# EAGLE library part CS8952-CQZ (library Cirrus_Logic_By_element14_Batch_1)
CrystalLAN? 100BASE-X and 10BASE-T Transceiver
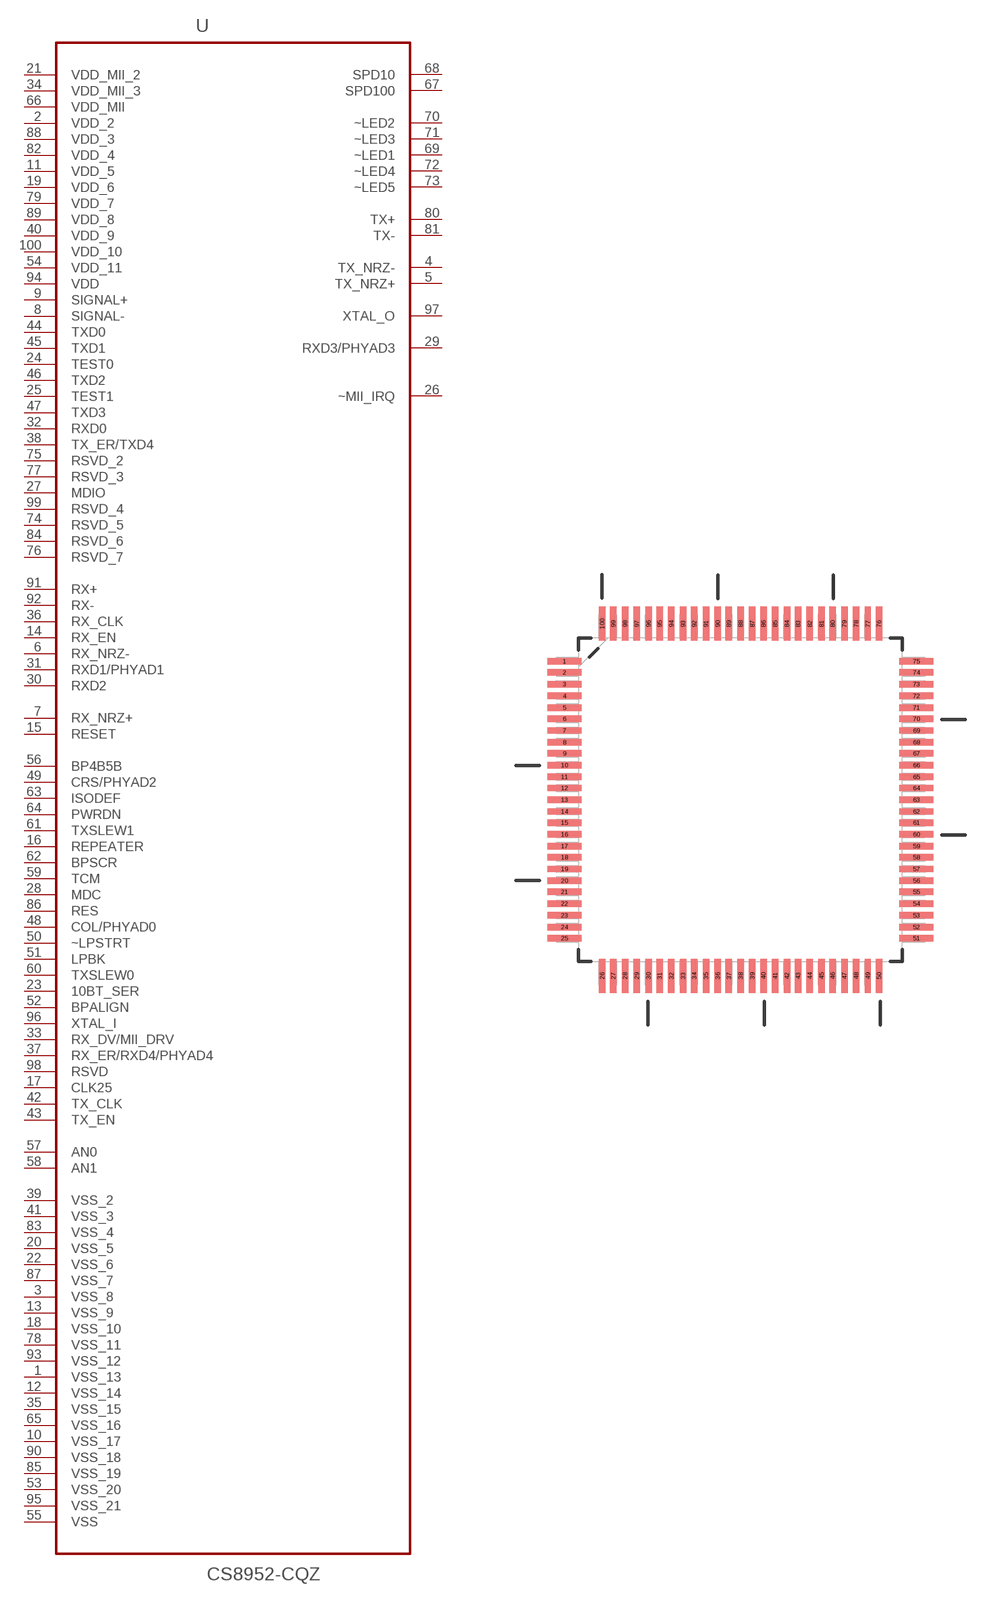
[diagram p12: symbol with the pads of QFP50P1600X1600X160-100N; footprint QFP50P1600X1600X160-100N]

Designator prefix U

## CS8952-CQZ (DESCRIPTION: CrystalLAN? 100BASE-X and 10BASE-T Transceiver; MPN: CS8952-CQZ; OC_FARNELL: 1023459; OC_NEWARK: 75K7424; PACKAGE: LQFP-100; SUPPLIER: CIRRUS LOGIC)  [QFP50P1600X1600X160-100N]
1  VSS_13  pwr
2  VDD_2  pwr
3  VSS_8  pwr
4  TX_NRZ-  out
5  TX_NRZ+  out
6  RX_NRZ-  in
7  RX_NRZ+  in
8  SIGNAL-  in
9  SIGNAL+  in
10  VSS_17  pwr
11  VDD_5  pwr
12  VSS_14  pwr
13  VSS_9  pwr
14  RX_EN  in
15  RESET  in
16  REPEATER  in
17  CLK25  in
18  VSS_10  pwr
19  VDD_6  pwr
20  VSS_5  pwr
21  VDD_MII_2  pwr
22  VSS_6  pwr
23  10BT_SER  in
24  TEST0  in
25  TEST1  in
26  ~MII_IRQ  out
27  MDIO
28  MDC  in
29  RXD3/PHYAD3  hiz
30  RXD2  hiz
31  RXD1/PHYAD1  hiz
32  RXD0  hiz
33  RX_DV/MII_DRV  hiz
34  VDD_MII_3  pwr
35  VSS_15  pwr
36  RX_CLK  in
37  RX_ER/RXD4/PHYAD4  hiz
38  TX_ER/TXD4  in
39  VSS_2  pwr
40  VDD_9  pwr
41  VSS_3  pwr
42  TX_CLK  in
43  TX_EN  in
44  TXD0  in
45  TXD1  in
46  TXD2  in
47  TXD3  in
48  COL/PHYAD0  hiz
49  CRS/PHYAD2  hiz
50  ~LPSTRT  in
51  LPBK  in
52  BPALIGN  in
53  VSS_20  pwr
54  VDD_11  pwr
55  VSS  pwr
56  BP4B5B  in
57  AN0  in
58  AN1  in
59  TCM  in
60  TXSLEW0  in
61  TXSLEW1  in
62  BPSCR  in
63  ISODEF  in
64  PWRDN  in
65  VSS_16  pwr
66  VDD_MII  pwr
67  SPD100  out
68  SPD10  out
69  ~LED1  out
70  ~LED2  out
71  ~LED3  out
72  ~LED4  out
73  ~LED5  out
74  RSVD_5  pas
75  RSVD_2  pas
76  RSVD_7  pas
77  RSVD_3  pas
78  VSS_11  pwr
79  VDD_7  pwr
80  TX+  out
81  TX-  out
82  VDD_4  pwr
83  VSS_4  pwr
84  RSVD_6  pas
85  VSS_19  pwr
86  RES  in
87  VSS_7  pwr
88  VDD_3  pwr
89  VDD_8  pwr
90  VSS_18  pwr
91  RX+  in
92  RX-  in
93  VSS_12  pwr
94  VDD  pwr
95  VSS_21  pwr
96  XTAL_I  in
97  XTAL_O  out
98  RSVD  pas
99  RSVD_4  pas
100  VDD_10  pwr

## Footprint QFP50P1600X1600X160-100N (pad centres in mm)
smd 1.473 x 0.279: 1 -7.62,5.994; 2 -7.62,5.512; 3 -7.62,5.004; 4 -7.62,4.496; 5 -7.62,3.988; 6 -7.62,3.505; 7 -7.62,2.997; 8 -7.62,2.489; 9 -7.62,2.007; 10 -7.62,1.499; 11 -7.62,0.991; 12 -7.62,0.508; 13 -7.62,0; 14 -7.62,-0.508; 15 -7.62,-0.991; 16 -7.62,-1.499; 17 -7.62,-2.007; 18 -7.62,-2.489; 19 -7.62,-2.997; 20 -7.62,-3.505; 21 -7.62,-3.988; 22 -7.62,-4.496; 23 -7.62,-5.004; 24 -7.62,-5.512; 25 -7.62,-5.994; 51 7.62,-5.994; 52 7.62,-5.512; 53 7.62,-5.004; 54 7.62,-4.496; 55 7.62,-3.988; 56 7.62,-3.505; 57 7.62,-2.997; 58 7.62,-2.489; 59 7.62,-2.007; 60 7.62,-1.499; 61 7.62,-0.991; 62 7.62,-0.508; 63 7.62,0; 64 7.62,0.508; 65 7.62,0.991; 66 7.62,1.499; 67 7.62,2.007; 68 7.62,2.489; 69 7.62,2.997; 70 7.62,3.505; 71 7.62,3.988; 72 7.62,4.496; 73 7.62,5.004; 74 7.62,5.512; 75 7.62,5.994
smd 0.279 x 1.473: 26 -5.994,-7.62; 27 -5.512,-7.62; 28 -5.004,-7.62; 29 -4.496,-7.62; 30 -3.988,-7.62; 31 -3.505,-7.62; 32 -2.997,-7.62; 33 -2.489,-7.62; 34 -2.007,-7.62; 35 -1.499,-7.62; 36 -0.991,-7.62; 37 -0.508,-7.62; 38 0,-7.62; 39 0.508,-7.62; 40 0.991,-7.62; 41 1.499,-7.62; 42 2.007,-7.62; 43 2.489,-7.62; 44 2.997,-7.62; 45 3.505,-7.62; 46 3.988,-7.62; 47 4.496,-7.62; 48 5.004,-7.62; 49 5.512,-7.62; 50 5.994,-7.62; 76 5.994,7.62; 77 5.512,7.62; 78 5.004,7.62; 79 4.496,7.62; 80 3.988,7.62; 81 3.505,7.62; 82 2.997,7.62; 83 2.489,7.62; 84 2.007,7.62; 85 1.499,7.62; 86 0.991,7.62; 87 0.508,7.62; 88 0,7.62; 89 -0.508,7.62; 90 -0.991,7.62; 91 -1.499,7.62; 92 -2.007,7.62; 93 -2.489,7.62; 94 -2.997,7.62; 95 -3.505,7.62; 96 -3.988,7.62; 97 -4.496,7.62; 98 -5.004,7.62; 99 -5.512,7.62; 100 -5.994,7.62